# Altium footprint library SOIC-8(5.2X5.2).PcbLib: 1 footprints
Each footprint in its own frame and in the unit in brackets; x right, y up, seen from the top. Pads: shape width x height; smd on the part's side, far side on the other; paste and mask are expansions set on the pad; w line width, h text height; cw(c..) or ccw(c..) is an arc to the next point about the centre after c.
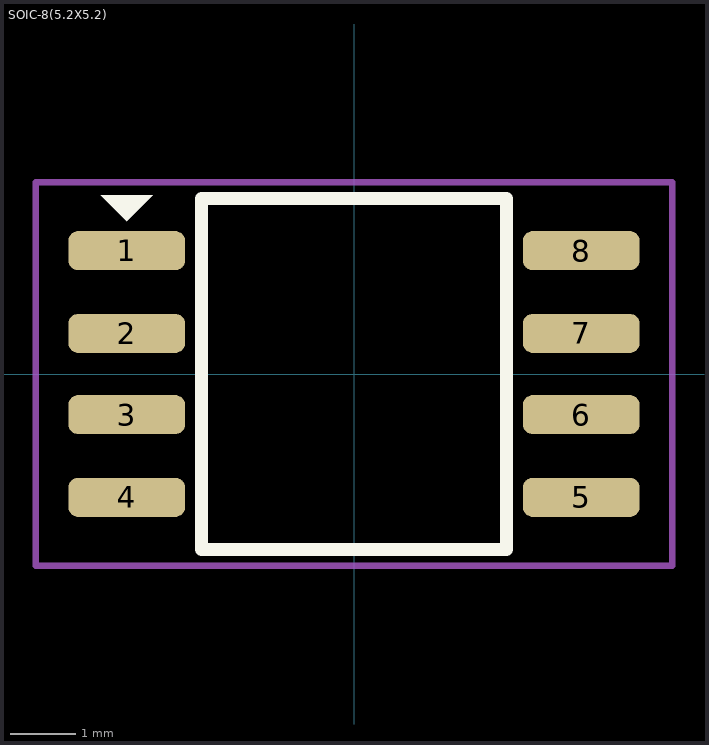
[diagram p0: the footprint, top view; thin cyan lines are the x and y axes]

## SOIC-8(5.2X5.2) [mm] "SOIC, 8-Leads, Body 5.30x5.30mm, Pitch 1.27mm, IPC Medium Density"
height 1.75
pads (8):
  rrect50% 1.8x0.6 smd: 1(-3.5,1.9) 2(-3.5,0.625) 3(-3.5,-0.625) 4(-3.5,-1.9) 5(3.5,-1.9) 6(3.5,-0.625) 7(3.5,0.625) 8(3.5,1.9)
Top Overlay:
  region: -3.9,2.75 -3.1,2.75 -3.5,2.35
  lines w0.2: -2.35,-2.7 2.35,-2.7 2.35,2.7 -2.35,2.7 -2.35,-2.7
Top Courtyard:
  lines w0.1: -4.9,-2.95 -4.9,2.95 4.9,2.95 4.9,-2.95 -4.9,-2.95
3D body "SOIC127P790X175-8N.step": height 1.75, standoff 0, extent -3.95,-2.7 3.95,2.7